# Altium integrated library AC_Wire_Connection.IntLib: 1 symbol
Pins are listed as number, name and electrical type; pins without a type are passive.

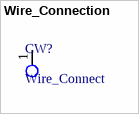
[diagram p0: symbol Wire_Connection]

## Wire_Connection
designator CW?, comment Wire_Connect
Value: *; Availability: Warning; Price: None
footprint Wire_Connection (Wire_Connect)
pins: 1